# EAGLE library part 74LVC2GU04GV,125 (library 74LVC2GU04GV_125)
74LVC2GU04 - Dual unbuffered inverter@en-us Source: Datasheet <https://assets.nexperia.com/documents/data-sheet/74LVC2GU04.pdf>
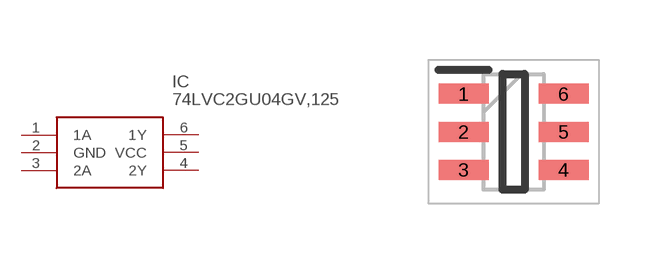
[diagram p0: symbol with the pads of SOT95P275X110-6N; footprint SOT95P275X110-6N]

Designator prefix IC

## 74LVC2GU04GV,125 (Description: 74LVC2GU04 - Dual unbuffered inverter@en-us; Height: 1.1mm; Manufacturer_Name: Nexperia; Manufacturer_Part_Number: 74LVC2GU04GV,125; Mouser_Part_Number: 771-LVC2GU04GV125; Mouser_Price-Stock: https://www.mouser.co.uk/ProductDetail/Nexperia/74LVC2GU04GV125?qs=me8TqzrmIYWfK4lIwWJZiA%3D%3D)  [SOT95P275X110-6N]
1  1A
2  GND
3  2A
4  2Y
5  VCC
6  1Y

## Footprint SOT95P275X110-6N (pad centres in mm)
SOT457 (SC-74)
smd 1.25 x 0.5: 1 -1.25,0.95; 2 -1.25,0; 3 -1.25,-0.95; 4 1.25,-0.95; 5 1.25,0; 6 1.25,0.95